# Altium schematic symbol library power.SchLib: 15 symbols
Pins are listed as number, name and electrical type; pins without a type are passive.

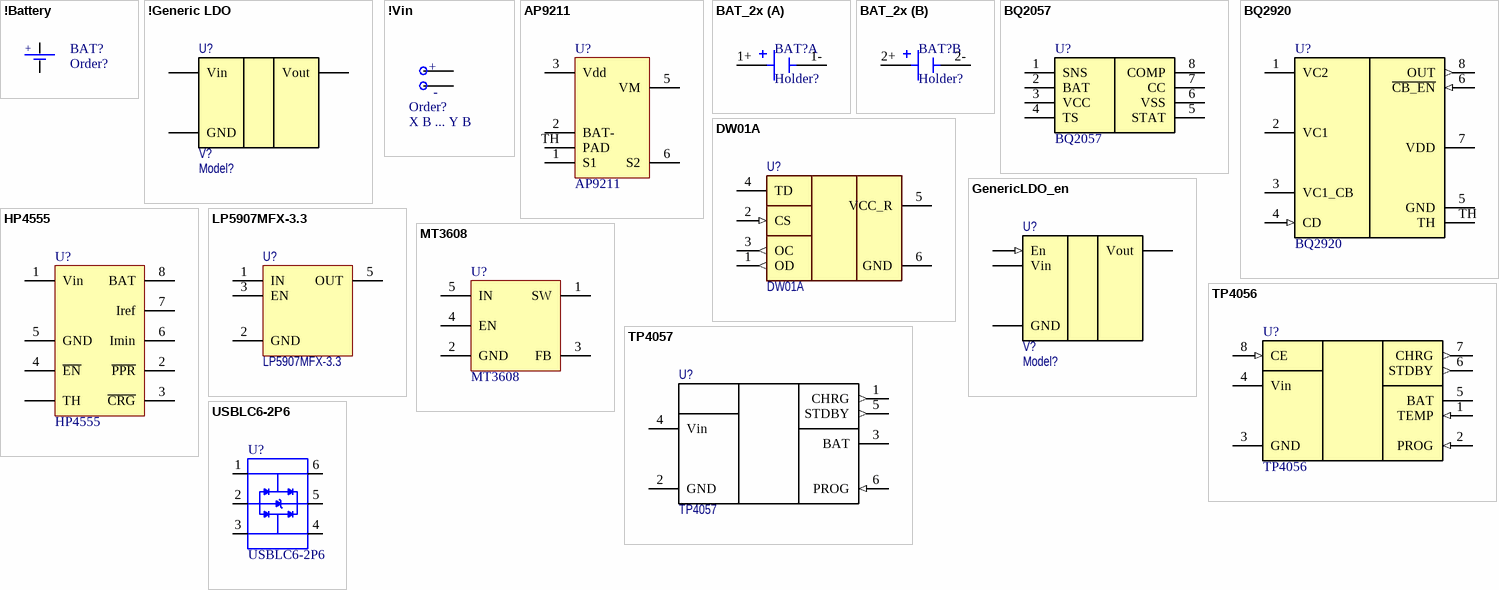
[diagram p0: symbols !Battery to USBLC6-2P6]

## !Battery
designator BAT?, comment Order?
generic battery
footprint CLEMM-2; pin to pad A>2 K>1
footprint BAT_18650_CLIPS
footprint Battery_Block
footprint BAT_18350_CLIPS
footprint RTC_BAT
pins: A, K
text: +

## !Generic LDO
designator U?, comment Model?  value V?
generic ldo; IsSMT: NoSMT
footprint DFN-6
footprint SOT223; pin to pad ADJ/GND>1 Vin>3 Vout>2
footprint SOT23-3; pin to pad ADJ/GND>1 Vin>3 Vout>2
footprint SOT-89; pin to pad ADJ/GND>2 Vin>3 Vout>1
pins: ADJ/GND GND, Vin, Vout

## !Vin
designator X?, comment Order?  Voltage: X В ... Y В
Vin
footprint PLS-2R-2.54
footprint PLS-2-2.54
footprint PBS-2-2.54
footprint CLEMM-2
pins: 1 50, 2 51
text: +; -

## AP9211
designator U?
BMS with built-in keys; IsSMT: NoSMT; Order: *; LCSC Part #: *; BuyLink1: *
footprint DFN-8-2x3
pins: 1 S1, 2 BAT-, 3 Vdd, 5 VM, 6 S2, TH PAD

## BAT_2x
designator BAT?, comment Holder?
Battery Holder d2 Cell
footprint BAT_18650_HolderL
part A pins: 1+, 1-
part B pins: 2+, 2-

## BQ2057
designator U?
2S Li-Ion linear charger
footprint SO-8 (Small Outline; 8 Leads; Body Width 3.9 mm; Pitch 1.27 mm)
pins: 1 SNS, 2 BAT, 3 VCC, 4 TS, 5 STAT, 6 VSS, 7 CC, 8 COMP

## BQ2920
designator U?
2S li-ion balancer
footprint VSON-8
pins: 1 VC2 (power), 2 VC1 (power), 3 VC1_CB (power), 4 CD (in), 5 GND (power), 6 ~{CB_EN} (in), 7 VDD (power), 8 OUT (out), TH (power)

## DW01A
designator U?
BMS
footprint SOT23-6
pins: 1 OD (out), 2 CS (in), 3 OC (out), 4 TD, 5 VCC_R (power), 6 GND (power)

## GenericLDO_en
designator U?, comment Model?  value V?
generic ldo with enable; IsSMT: NoSMT
footprint SOT23-5 (SOT23, 5-Leads, Body 2,90x2,80mm, Pitch 0,95mm, IPC Low Density); pin to pad ADJ/GND>2 En>3 Vin>1 Vout>5
pins: ADJ/GND GND, En (in), Vin, Vout

## HP4555
designator U?
Charger lin QFP; IsSMT: NoSMT; Order: *; LCSC Part #: *; BuyLink1: *
footprint DFN-8-2x2
pins: 1 Vin, 2 ~{PPR}, 3 ~{CRG}, 4 ~{EN}, 5 GND, 6 Imin, 7 Iref, 8 BAT, TH

## LP5907MFX-3.3
designator U?
LDO 250mV en
footprint SOT23-5 (SOT23, 5-Leads, Body 2,90x2,80mm, Pitch 0,95mm, IPC Low Density)
pins: 1 IN, 2 GND, 3 EN, 5 OUT

## MT3608
designator U?
Integrated Circuit; Manufacturer_Name: Aerosemi; Datasheet Link: https://www.olimex.com/Products/Breadboarding/BB-PWR-3608/resources/MT3608.pdf; Height: 1.45mm; Manufacturer_Part_Number: MT3608
footprint SOT23-6
pins: 1 SW, 2 GND, 3 FB, 4 EN, 5 IN

## TP4056
designator U?
Charger lin; Order: TP4056
footprint SO-8 (Small Outline; 8 Leads; Body Width 3.9 mm; Pitch 1.27 mm)
pins: 1 TEMP (in), 2 PROG (in), 3 GND (power), 4 Vin (power), 5 BAT (power), 6 STDBY (out), 7 CHRG (out), 8 CE (in)

## TP4057
designator U?
Charger lin; IsSMT: NoSMT
footprint SOT23-6
pins: 1 CHRG (out), 2 GND (power), 3 BAT (power), 4 Vin (power), 5 STDBY (out), 6 PROG (in)

## USBLC6-2P6
designator U?
ESD USB; IsSMT: NoSMT; Order: *; LCSC Part #: *; BuyLink1: *
footprint SOT-666
pins: 1 I/O1_1 (io), 2 GND (power), 3 I/O2_1 (io), 4 I/O2_2 (io), 5 VBUS (power), 6 I/O1_2 (io)